# Altium footprint library TempController.PcbLib: 3 footprints
Each footprint in its own frame and in the unit in brackets; x right, y up, seen from the top. Pads: shape width x height; smd on the part's side, far side on the other; paste and mask are expansions set on the pad; w line width, h text height; cw(c..) or ccw(c..) is an arc to the next point about the centre after c.
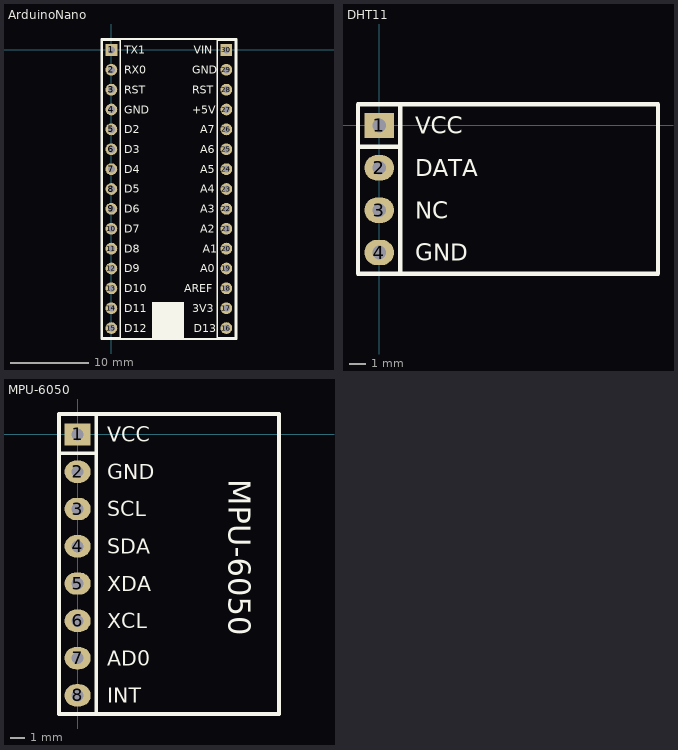
[diagram p0: the footprints below, top view; thin cyan lines are the x and y axes]

## ArduinoNano [mm]
pads (30):
  rect 1.5x1.5 hole 0.9: 1(0,0) 30(14.7,0)
  round 1.5 hole 0.9: 2(0,-2.54) 3(0,-5.08) 4(0,-7.62) 5(0,-10.16) 6(0,-12.7) 7(0,-15.24) 8(0,-17.78) 9(0,-20.32) 10(0,-22.86) 11(0,-25.4) 12(0,-27.94) 13(0,-30.48) 14(0,-33.02) 15(0,-35.56) 16(14.7,-35.56) 17(14.7,-33.02) 18(14.7,-30.48) 19(14.7,-27.94) 20(14.7,-25.4) 21(14.7,-22.86) 22(14.7,-20.32) 23(14.7,-17.78) 24(14.7,-15.24) 25(14.7,-12.7) 26(14.7,-10.16) 27(14.7,-7.62) 28(14.7,-5.08) 29(14.7,-2.54)
Top Overlay:
  rectangle: 5.207,-36.957 9.314,-32.258
  lines w0.2: -1.143,-36.83 -1.143,1.27 1.143,1.27 1.143,-0.508 1.143,-36.83 -1.143,-36.83 ; 13.557,-36.83 13.557,1.27 15.843,1.27 15.843,-0.508 15.843,-36.83 13.557,-36.83
  lines w0.254: -1.27,-36.957 16.002,-36.957 16.002,1.397 -1.27,1.397 -1.27,-36.957
  text "D13" at 10.498,-36.068 h1.02
  text "3V3" at 10.329,-33.528 h1.02
  text "AREF" at 9.314,-30.988 h1.02
  text "A0" at 11.345,-28.448 h1.02
  text "A1" at 11.683,-25.908 h1.02
  text "A2" at 11.345,-23.368 h1.02
  text "A3" at 11.345,-20.828 h1.02
  text "A4" at 11.345,-18.288 h1.02
  text "A5" at 11.345,-15.748 h1.02
  text "A6" at 11.345,-13.208 h1.02
  text "A7" at 11.345,-10.668 h1.02
  text "+5V" at 10.329,-8.128 h1.02
  text "RST" at 10.329,-5.588 h1.02
  text "GND" at 10.329,-3.048 h1.02
  text "VIN" at 10.498,-0.508 h1.02
  text "D12" at 1.651,-36.068 h1.02
  text "D11" at 1.651,-33.528 h1.02
  text "D10" at 1.651,-30.988 h1.02
  text "D9" at 1.651,-28.448 h1.02
  text "D8" at 1.651,-25.908 h1.02
  text "D7" at 1.651,-23.368 h1.02
  text "D6" at 1.651,-20.828 h1.02
  text "D5" at 1.651,-18.288 h1.02
  text "D4" at 1.651,-15.748 h1.02
  text "D3" at 1.651,-13.208 h1.02
  text "D2" at 1.651,-10.668 h1.02
  text "GND" at 1.651,-8.128 h1.02
  text "RST" at 1.651,-5.588 h1.02
  text "RX0" at 1.651,-3.048 h1.02
  text "TX1" at 1.651,-0.508 h1.02
3D body "Female-Header-2.54-Single-15.stp": height 3.2, standoff -8.5, extent 13.47,-36.953 15.97,1.397
3D body "Female-Header-2.54-Single-15.stp": height 3.2, standoff -8.5, extent -1.23,-36.953 1.27,1.397

## DHT11 [mil]
pads (4):
  rect 70x60 hole 32: 1(0,0)
  oval 70x60 hole 32: 2(0,-100) 3(0,-200) 4(0,-300)
Top Overlay:
  lines w10: -50,-50 50,-50 ; -50,-350 658.66,-350 658.66,50 -50,50 ; -50,-350 50,-350 50,50 -50,50 ; -50,-350 -50,50
  text "GND" at 85,-320 h40
  text "NC" at 85,-220 h40
  text "DATA" at 85,-120 h40
  text "VCC" at 85,-20 h40
3D body "1001-4.STEP": height 336.22, standoff -118.11, extent -49.99,-350 50.01,50

## MPU-6050 [mil]
pads (8):
  rect 70x60 hole 32: 1(0,0)
  oval 70x60 hole 32: 2(0,-100) 3(0,-200) 4(0,-300) 5(0,-400) 6(0,-500) 7(0,-600) 8(0,-700)
Top Overlay:
  lines w10: -50,-50 50,-50 ; -50,-750 540.55,-750 540.55,55 -50,55 ; -50,-750 -50,55 ; -50,-750 50,-750 50,55 -50,55
  text "INT" at 80,-720 h40
  text "AD0" at 80,-620 h40
  text "XCL" at 80,-520 h40
  text "XDA" at 80,-420 h40
  text "SDA" at 80,-320 h40
  text "SCL" at 80,-220 h40
  text "GND" at 80,-120 h40
  text "VCC" at 80,-20 h40
  text "MPU-6050" at 405,-120 h60
3D body "Female-Header-2.54-Single-8.stp": height 125.98, standoff -334.65, extent -49.21,-754.92 49.22,54.92